# Altium footprint library MyLib.PCBLIB: 64 footprints (part 2 of 4)
Each footprint in its own frame and in the unit in brackets; x right, y up, seen from the top. Pads: shape width x height; smd on the part's side, far side on the other; paste and mask are expansions set on the pad; w line width, h text height; cw(c..) or ccw(c..) is an arc to the next point about the centre after c.
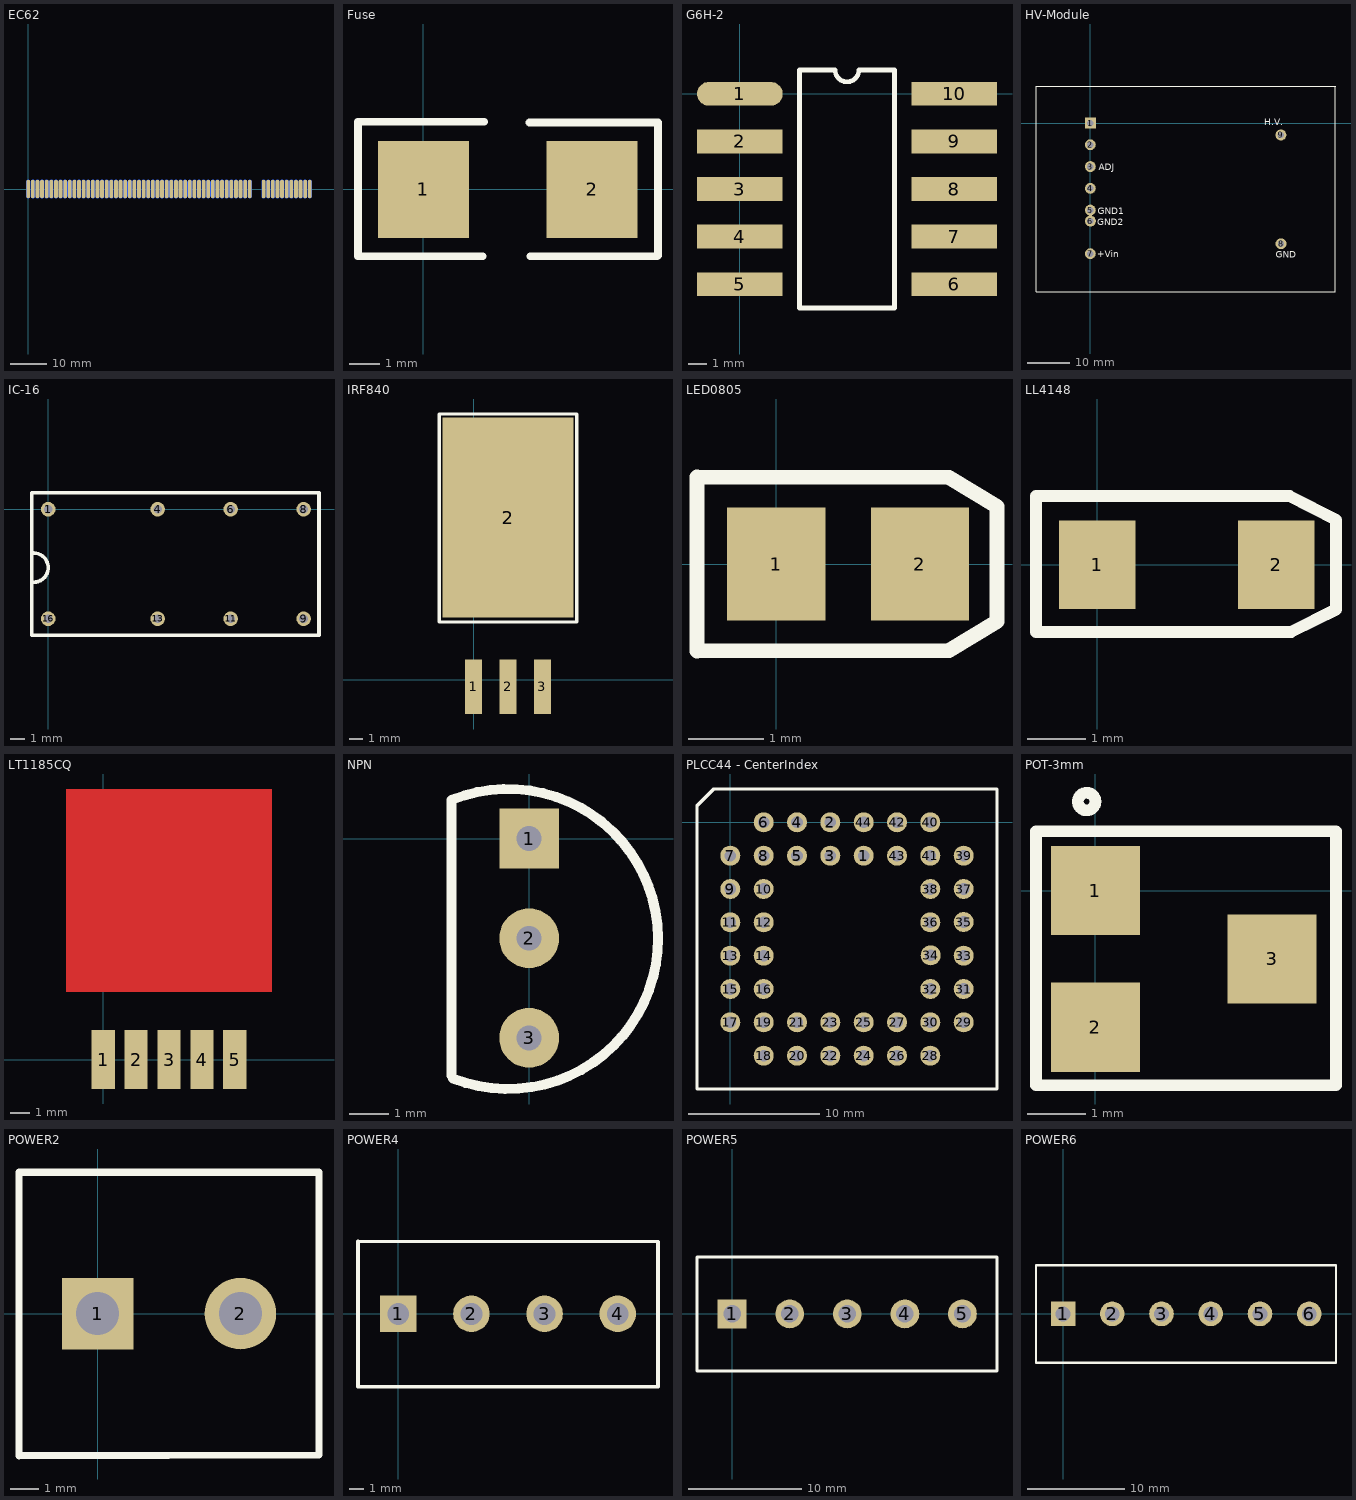
[diagram p1: the footprints below, top view; thin cyan lines are the x and y axes]

## EC62 [mil]
pads (120):
  oval 40x200 smd far side: A1(0,0) A2(50,0) A3(100,0) A4(150,0) A5(200,0) A6(250,0) A7(300,0) A8(350,0) A9(400,0) A10(450,0) A11(500,0) A12(550,0) A13(600,0) A14(650,0) A15(700,0) A16(750,0) A17(800,0) A18(850,0) A19(900,0) A20(950,0) A21(1000,0) A22(1050,0) A23(1100,0) A24(1150,0) A25(1200,0) A26(1250,0) A27(1300,0) A28(1350,0) A29(1400,0) A30(1450,0) A31(1500,0) A32(1550,0) A33(1600,0) A34(1650,0) A35(1700,0) A36(1750,0) A37(1800,0) A38(1850,0) A39(1900,0) A40(1950,0) A41(2000,0) A42(2050,0) A43(2100,0) A44(2150,0) A45(2200,0) A46(2250,0) A47(2300,0) A48(2350,0) A49(2400,0) A52(2550,0) A53(2600,0) A54(2650,0) A55(2700,0) A56(2750,0) A57(2800,0) A58(2850,0) A59(2900,0) A60(2950,0) A61(3000,0) A62(3050,0)
  oval 40x200 smd: B1(0,0) B2(50,0) B3(100,0) B4(150,0) B5(200,0) B6(250,0) B7(300,0) B8(350,0) B9(400,0) B10(450,0) B11(500,0) B12(550,0) B13(600,0) B14(650,0) B15(700,0) B16(750,0) B17(800,0) B18(850,0) B19(900,0) B20(950,0) B21(1000,0) B22(1050,0) B23(1100,0) B24(1150,0) B25(1200,0) B26(1250,0) B27(1300,0) B28(1350,0) B29(1400,0) B30(1450,0) B31(1500,0) B32(1550,0) B33(1600,0) B34(1650,0) B35(1700,0) B36(1750,0) B37(1800,0) B38(1850,0) B39(1900,0) B40(1950,0) B41(2000,0) B42(2050,0) B43(2100,0) B44(2150,0) B45(2200,0) B46(2250,0) B47(2300,0) B48(2350,0) B49(2400,0) B52(2550,0) B53(2600,0) B54(2650,0) B55(2700,0) B56(2750,0) B57(2800,0) B58(2850,0) B59(2900,0) B60(2950,0) B61(3000,0) B62(3050,0)

## Fuse [mm]
pads (2):
  rect 3x3.2 smd: 1(0,0) 2(5.569,0)
Top Overlay:
  lines w0.254: -2.159,-2.21 -2.159,2.235 2.007,2.235 ; -2.134,-2.21 1.956,-2.21 ; 3.505,2.21 7.747,2.21 7.747,-2.184 ; 3.531,-2.21 7.722,-2.21

## G6H-2 [mil]
pads (10):
  oval 180x50 smd: 1(0,0)
  rect 180x50 smd: 2(0,-100) 3(0,-200) 4(0,-300) 5(0,-400) 6(450,-400) 7(450,-300) 8(450,-200) 9(450,-100) 10(450,0)
Top Overlay:
  lines w10: 125,-450 325,-450 325,50 250,50 cw(c225,50) 200,50 125,50 125,-450

## HV-Module [mil]
pads (9):
  rect 100x100 hole 59.06: 1(0,0)
  round 100 hole 59.06: 2(-1,-199) 3(-1,-399) 4(-1,-599) 5(-1,-799) 6(0,-899) 7(-1,-1199) 8(1750,-1108) 9(1749,-109)
Top Overlay:
  lines w10: 2250,340 2250,-1550 -500,-1550 -500,340 2255,340
  text "+Vin" at 63,-1231 h60
  text "GND2" at 63,-936 h60
  text "GND1" at 68,-835 h60
  text "ADJ" at 76,-431 h60
  text "GND" at 1702,-1235 h60
  text "H.V." at 1597,-20 h60

## IC-16 [mil]
pads (8):
  round 40 hole 24: 1(0,0) 4(300,0) 6(500,0) 8(700,0) 9(700,-300) 11(500,-300) 13(300,-300) 16(0,-300)
Top Overlay:
  lines w10: -40,-200 ccw(c-40,-160) -40,-120 ; -45.28,-344.88 742.13,-344.88 742.13,44.88 -45.28,44.88 -45.28,-344.88

## IRF840 [mil]
pads (4):
  rect 50x157.48 smd: 1(0,-20) 2(100,-20) 3(200,-20)
  rect 380x580 smd: 2(100,471)
Top Overlay:
  circle w3.94: c-63.94,211.26 r7.87
  lines w10: -100,168.11 -100,771.26 100,771.26 300,771.26 300,168.11 -100,168.11

## LED0805 [mm]
pads (2):
  rect 1.3x1.5 smd: 1(0,0) 2(1.9,0)
Top Overlay:
  lines w0.2: -1.05,-1.15 -1.05,1.15 2.286,1.143 2.921,0.762 2.921,-0.762 2.286,-1.143 -1.05,-1.15

## LL4148 [mm]
pads (2):
  rect 1.3x1.5 smd: 1(0,0) 2(3.048,0)
Top Overlay:
  lines w0.2: -1.041,-1.143 -1.041,1.168 3.277,1.168 4.064,0.762 4.064,-0.762 3.302,-1.143 -1.041,-1.143

## LT1185CQ [mil]
pads (5):
  rect 47.24x120 smd: 1(0,0) 2(67,0) 3(134,0) 4(201,0) 5(268,0)
Top Layer:
  rectangle: -76,138 344,551

## NPN [mil]
pads (3):
  rect 60x60 hole 25: 1(0,0)
  round 60 hole 25: 2(0,-100) 3(0,-200)
Top Overlay:
  lines w10: -78,-238 -78,37 ; -77.73,38.81 cw(c-21.24,-100.76) -76.35,-240.89

## PLCC44 - CenterIndex [mil]
pads (44):
  round 60 hole 35: 1(400,-100) 2(300,0) 3(300,-100) 4(200,0) 5(200,-100) 6(100,0) 7(0,-100) 8(100,-100) 9(0,-200) 10(100,-200) 11(0,-300) 12(100,-300) 13(0,-400) 14(100,-400) 15(0,-500) 16(100,-500) 17(0,-600) 18(100,-700) 19(100,-600) 20(200,-700) 21(200,-600) 22(300,-700) 23(300,-600) 24(400,-700) 25(400,-600) 26(500,-700) 27(500,-600) 28(600,-700) 29(700,-600) 30(600,-600) 31(700,-500) 32(600,-500) 33(700,-400) 34(601,-399) 35(700,-299) 36(600,-300) 37(700,-200) 38(600,-200) 39(700,-100) 40(600,0) 41(600,-100) 42(500,0) 43(500,-100) 44(400,0)
Top Overlay:
  lines w10: -100,-800 -100,50 -50,100 800,100 800,-800 -100,-800

## POT-3mm [mil]
pads (3):
  rect 60x60 smd: 1(0,0) 2(0,-92) 3(119,-46)
Top Overlay:
  circle w7.87: c-5.91,60 r5.91
  lines w7.87: -40,-131 -40,40 162,40 162,-131 -40,-131

## POWER2 [mil]
pads (2):
  rect 100x100 hole 60: 1(0,0)
  round 100 hole 60: 2(200,0)
Top Overlay:
  lines w10: -110,-199 -110,198 310,198 310,-198 -110,-199

## POWER4 [mil]
pads (4):
  rect 100x100 hole 60: 1(0,0)
  round 100 hole 60: 2(200,0) 3(400,0) 4(600,0)
Top Overlay:
  lines w10: -110,-199 -110,198 710,197 710,-199 -110,-199

## POWER5 [mil]
pads (5):
  rect 100x100 hole 60: 1(0,0)
  round 100 hole 60: 2(200,0) 3(400,0) 4(600,0) 5(800,0)
Top Overlay:
  lines w10: -122,-199 920,-199 920,197 -122,198 -122,-199

## POWER6 [mil]
pads (6):
  rect 100x100 hole 60: 1(0,0)
  round 100 hole 60: 2(200,0) 3(400,0) 4(600,0) 5(800,0) 6(1000,0)
Top Overlay:
  lines w10: -110,-199 1109,-198 1109,198 -110,198 -110,-199